# Altium footprint library LIB-300-009-01.PcbLib: 1 footprints
Each footprint in its own frame and in the unit in brackets; x right, y up, seen from the top. Pads: shape width x height; smd on the part's side, far side on the other; paste and mask are expansions set on the pad; w line width, h text height; cw(c..) or ccw(c..) is an arc to the next point about the centre after c.
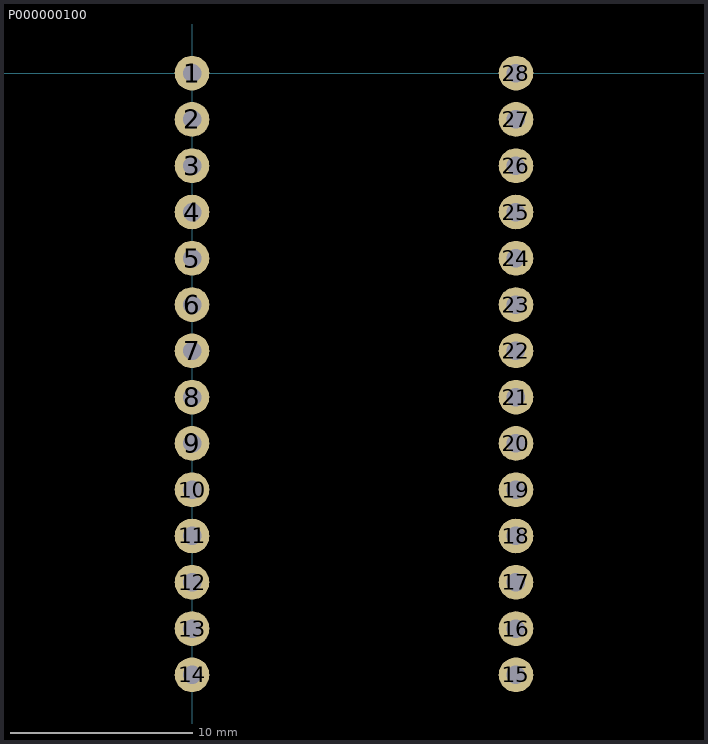
[diagram p0: the footprint, top view; thin cyan lines are the x and y axes]

## P000000100 [mil]
pads (28):
  round 75 hole 40 paste-99999 mask+0: 1(0,0) 2(0,-100) 3(0,-200) 4(0,-300) 5(0,-400) 6(0,-500) 7(0,-600) 8(0,-700) 9(0,-800) 10(0,-900) 11(0,-1000) 12(0,-1100) 13(0,-1200) 14(0,-1300) 15(700,-1300) 16(700,-1200) 17(700,-1100) 18(700,-1000) 19(700,-900) 20(700,-800) 21(700,-700) 22(700,-600) 23(700,-500) 24(700,-400) 25(700,-300) 26(700,-200) 27(700,-100) 28(700,0)
3D body "walter.step": height 668.28, standoff 110.03, extent -138.3,-1782.08 838.08,383.28